# EAGLE library part 74ACT244SC (library Fairchild_By_element14_Batch_1)
Octal Buffer/Line Driver
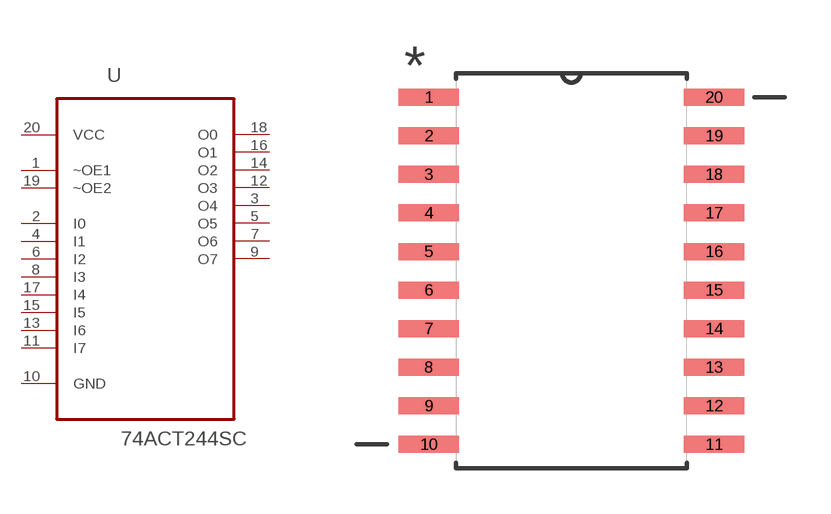
[diagram p44: symbol with the pads of SOIC127P1032X265-20N; footprint SOIC127P1032X265-20N]

Designator prefix U

## 74ACT244SC (MPN: 74ACT244SC; OC_FARNELL: 1014150; OC_NEWARK: 78K6183; PACKAGE: SOIC-20; SUPPLIER: Fairchild)  [SOIC127P1032X265-20N]
1  ~OE1  in
2  I0  in
3  O4  out
4  I1  in
5  O5  out
6  I2  in
7  O6  out
8  I3  in
9  O7  out
10  GND  pas
11  I7  in
12  O3  out
13  I6  in
14  O2  out
15  I5  in
16  O1  out
17  I4  in
18  O0  out
19  ~OE2  in
20  VCC  pwr

## Footprint SOIC127P1032X265-20N (pad centres in mm)
smd 1.981 x 0.559: 1 -4.699,5.715; 2 -4.699,4.445; 3 -4.699,3.175; 4 -4.699,1.905; 5 -4.699,0.635; 6 -4.699,-0.635; 7 -4.699,-1.905; 8 -4.699,-3.175; 9 -4.699,-4.445; 10 -4.699,-5.715; 11 4.699,-5.715; 12 4.699,-4.445; 13 4.699,-3.175; 14 4.699,-1.905; 15 4.699,-0.635; 16 4.699,0.635; 17 4.699,1.905; 18 4.699,3.175; 19 4.699,4.445; 20 4.699,5.715